# EAGLE library part MOSFET_N_DUAL (library ERIC)
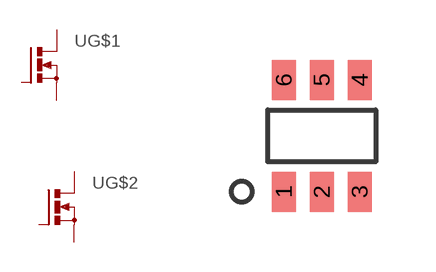
[diagram p27: symbol with the pads of SOT-23-6; footprint SOT-23-6]

Designator prefix -; gates G$1=MOSFET_N G$2=MOSFET_N

## MOSFET_N_DUAL  [SOT-23-6]
1  G$2:S  pas
2  G$2:G  pas
3  G$1:D  pas
4  G$1:S  pas
5  G$1:G  pas
6  G$2:D  pas

## Footprint SOT-23-6 (pad centres in mm)
6-Lead Plastic Small Outline Transistor (OT) [SOT-23] from Microchip Page 64
smd 0.6 x 1: 1 -0.95,-1.4; 2 0,-1.4; 3 0.95,-1.4; 4 0.95,1.4; 5 0,1.4; 6 -0.95,1.4